# EAGLE library part LM723 (library texas)
Linear Voltage Regulators Pos Adj/150M
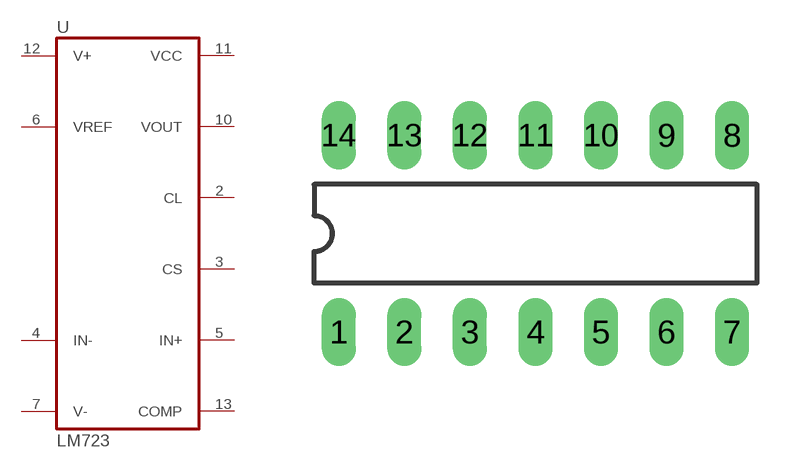
[diagram p123: symbol with the pads of DIL14; footprint DIL14]

Designator prefix U

## LM723  [DIL14]
2  CL  oc
3  CS  oc
4  IN-  in
5  IN+  in
6  VREF  out
7  V-  pwr
10  VOUT  oc
11  VCC  pwr
12  V+  pwr
13  COMP  pwr

## Footprint DIL14 (pad centres in mm)
Dual In Line Package
drill 0.813 long: 1 -7.62,-3.81; 2 -5.08,-3.81; 3 -2.54,-3.81; 4 0,-3.81; 5 2.54,-3.81; 6 5.08,-3.81; 7 7.62,-3.81; 8 7.62,3.81; 9 5.08,3.81; 10 2.54,3.81; 11 0,3.81; 12 -2.54,3.81; 13 -5.08,3.81; 14 -7.62,3.81